# EAGLE library part 1554ЛР11 (library std-logic-1554series)
АЕЯР.431200.182-01 ТУ 1554ЛР11 - Логические элементы "2-2И-2ИЛИ-НЕ" и "3-3И-2ИЛИ-НЕ". Изготовитель: ОАО "ИНТЕГРАЛ", г. Минск, р. Беларусь. Технические условия (ТБМ): АЕЯР.431200.182-01 ТУ Технические условия (не ТБМ): АЕЯР.431200.093-01 ТУ
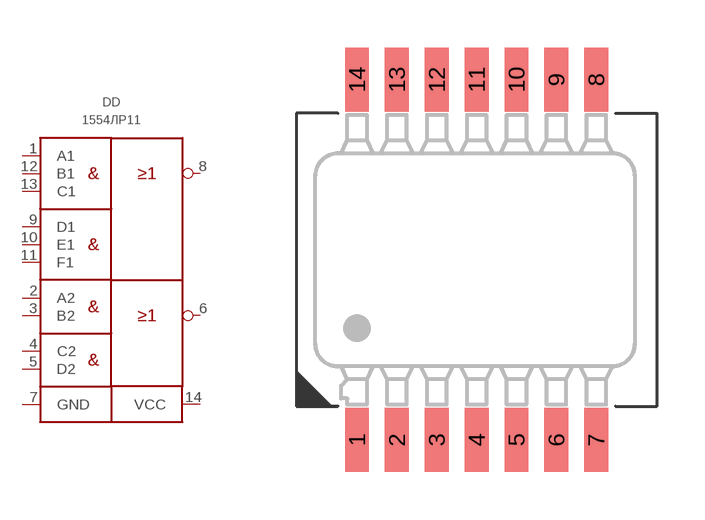
[diagram p19: symbol with the pads of 401.14-5; footprint 401.14-5]

Designator prefix DD

## 1554ЛР11ТБМ  [401.14-5]
1  A1  in
2  A2  in
3  B2  in
4  C2  in
5  D2  in
6  Y2  in
7  GND  pwr
8  Y1  in
9  D1  in
10  E1  in
11  F1  in
12  B1  in
13  C1  in
14  VCC  pwr

## Footprint 401.14-5 (pad centres in mm)
smd 0.75 x 2: 1 -3.7,-5.65; 2 -2.45,-5.65; 3 -1.2,-5.65; 4 0.05,-5.65; 5 1.3,-5.65; 6 2.55,-5.65; 7 3.8,-5.65; 8 3.8,5.65; 9 2.55,5.65; 10 1.3,5.65; 11 0.05,5.65; 12 -1.2,5.65; 13 -2.45,5.65; 14 -3.7,5.65